# EAGLE library part AT-SAM-C21-E (library dr-library)
Microchip/Atmel SAMD21 Series, 32-pin ARM Cortex M0+
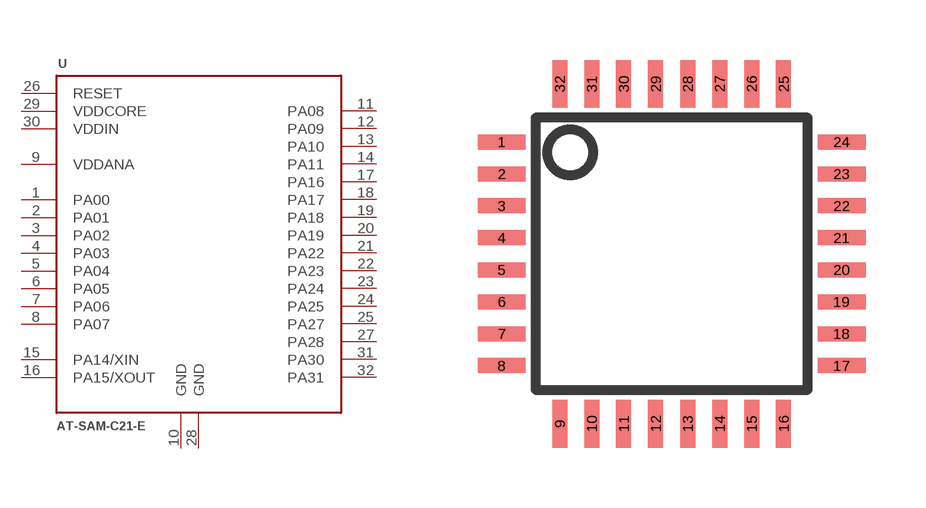
[diagram p8: symbol with the pads of TQFP-32; footprint TQFP-32]

Designator prefix U

## AT-SAM-C21-ETQFP  [TQFP-32]
1  PA00
2  PA01
3  PA02
4  PA03
5  PA04
6  PA05
7  PA06
8  PA07
9  VDDANA  pwr
10  GND  pwr
11  PA08
12  PA09
13  PA10
14  PA11
15  PA14/XIN
16  PA15/XOUT
17  PA16
18  PA17
19  PA18
20  PA19
21  PA22
22  PA23
23  PA24
24  PA25
25  PA27
26  RESET
27  PA28
28  GND  pwr
29  VDDCORE  out
30  VDDIN  pwr
31  PA30
32  PA31

## Footprint TQFP-32 (pad centres in mm)
smd 1.2 x 0.375: 1 -4.25,2.8; 2 -4.25,2; 3 -4.25,1.2; 4 -4.25,0.4; 5 -4.25,-0.4; 6 -4.25,-1.2; 7 -4.25,-2; 8 -4.25,-2.8; 17 4.25,-2.8; 18 4.25,-2; 19 4.25,-1.2; 20 4.25,-0.4; 21 4.25,0.4; 22 4.25,1.2; 23 4.25,2; 24 4.25,2.8
smd 0.375 x 1.2: 9 -2.8,-4.25; 10 -2,-4.25; 11 -1.2,-4.25; 12 -0.4,-4.25; 13 0.4,-4.25; 14 1.2,-4.25; 15 2,-4.25; 16 2.8,-4.25; 25 2.8,4.25; 26 2,4.25; 27 1.2,4.25; 28 0.4,4.25; 29 -0.4,4.25; 30 -1.2,4.25; 31 -2,4.25; 32 -2.8,4.25